# Altium footprint library PCBLibrary.PcbLib: 38 footprints (part 3 of 3)
Each footprint in its own frame and in the unit in brackets; x right, y up, seen from the top. Pads: shape width x height; smd on the part's side, far side on the other; paste and mask are expansions set on the pad; w line width, h text height; cw(c..) or ccw(c..) is an arc to the next point about the centre after c.
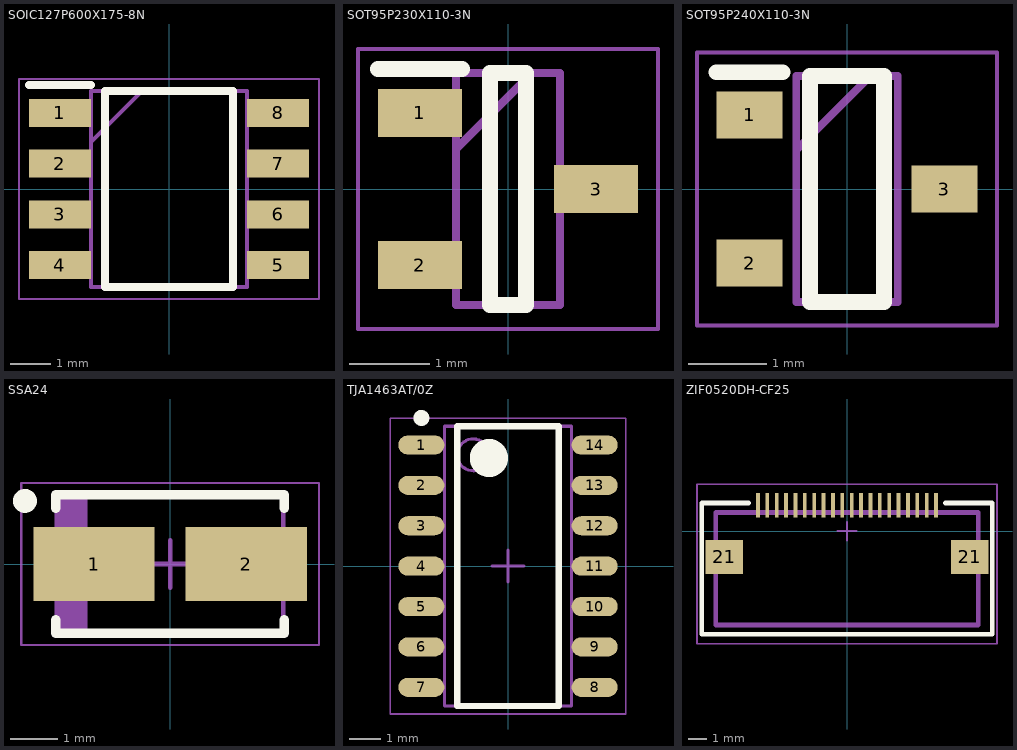
[diagram p2: the footprints below, top view; thin cyan lines are the x and y axes]

## SOIC127P600X175-8N [mm]
pads (8):
  rect 1.55x0.7 smd: 1(-2.725,1.905) 2(-2.725,0.635) 3(-2.725,-0.635) 4(-2.725,-1.905) 5(2.725,-1.905) 6(2.725,-0.635) 7(2.725,0.635) 8(2.725,1.905)
Top Overlay:
  lines w0.2: -3.5,2.605 -1.95,2.605 ; -1.6,-2.45 1.6,-2.45 1.6,2.45 -1.6,2.45 -1.6,-2.45
Mechanical 13:
  lines w0.1: -1.95,1.18 -0.68,2.45 ; -1.95,-2.45 1.95,-2.45 1.95,2.45 -1.95,2.45 -1.95,-2.45
Mechanical 15:
  lines w0.05: -3.75,-2.75 3.75,-2.75 3.75,2.75 -3.75,2.75 -3.75,-2.75
3D body "TJA1441AT_0Z.stp": height 1.75, standoff 0, extent -3,-2.45 3,2.45

## SOT95P230X110-3N [mm]
pads (3):
  rect 1.05x0.6 smd: 1(-1.1,0.95) 2(-1.1,-0.95) 3(1.1,0)
Top Overlay:
  lines w0.2: -1.625,1.5 -0.575,1.5 ; -0.225,-1.45 0.225,-1.45 0.225,1.45 -0.225,1.45 -0.225,-1.45
Mechanical 13:
  lines w0.1: -0.65,0.5 0.3,1.45 ; -0.65,-1.45 0.65,-1.45 0.65,1.45 -0.65,1.45 -0.65,-1.45
Mechanical 15:
  lines w0.05: -1.875,-1.75 1.875,-1.75 1.875,1.75 -1.875,1.75 -1.875,-1.75
3D body "BC847B,235.stp": height 1.1, standoff 0, extent -1.15,-1.45 1.15,1.45

## SOT95P240X110-3N [mm]
pads (3):
  rect 0.85x0.6 smd: 1(-1.25,0.95) 2(-1.25,-0.95) 3(1.25,0)
Top Overlay:
  lines w0.2: -1.675,1.5 -0.825,1.5 ; -0.475,-1.45 -0.475,1.45 0.475,1.45 0.475,-1.45 -0.475,-1.45
Mechanical 13:
  lines w0.1: -0.65,0.5 0.3,1.45 ; -0.65,-1.45 -0.65,1.45 0.65,1.45 0.65,-1.45 -0.65,-1.45
Mechanical 15:
  lines w0.05: -1.925,-1.75 -1.925,1.75 1.925,1.75 1.925,-1.75 -1.925,-1.75
3D body "BAT_54-04_E6327.stp": height 1.1, standoff 0, extent -1.2,-1.45 1.2,1.45

## SSA24 [mm]
height 2.7
pads (2):
  rect 2.55x1.55 smd: 1(-1.6,0) 2(1.6,0)
Top Overlay:
  circle w0.25: c-3.05,1.325 r0.125
  lines w0.2: -2.4,-1.175 -2.4,-1.45 2.4,-1.45 2.4,-1.175 ; -2.4,1.175 -2.4,1.45 2.4,1.45 2.4,1.175
Mechanical 13:
  rectangle: -2.375,-1.45 -1.736,1.45
  lines w0.1: -2.375,-1.45 2.375,-1.45 2.375,1.45 -2.375,1.45 -2.375,-1.45
Mechanical 15:
  lines w0.05: -3.125,-1.7 3.125,-1.7 3.125,1.7 -3.125,1.7 -3.125,-1.7
  lines w0.1: -0.5,0 0.5,0 ; 0,-0.5 0,0.5
3D body "SSA24.step": height 2.7, standoff 0, extent -2.595,-1.45 2.595,1.45

## TJA1463AT/0Z [mm] "SOP, 14-Leads, Body 8,65x3,90mm, Pitch 1,27mm, IPC Medium Density"
height 1.75
pads (14):
  oval 1.45x0.6 smd: 1(-2.725,3.81) 2(-2.725,2.54) 3(-2.725,1.27) 4(-2.725,0) 5(-2.725,-1.27) 6(-2.725,-2.54) 7(-2.725,-3.81) 8(2.725,-3.81) 9(2.725,-2.54) 10(2.725,-1.27) 11(2.725,0) 12(2.725,1.27) 13(2.725,2.54) 14(2.725,3.81)
Top Overlay:
  circle w0.25: c-2.725,4.66 r0.125
  circle w0.6: c-0.6,3.4 r0.3
  lines w0.2: -1.6,-4.4 -1.6,4.4 1.6,4.4 1.6,-4.4 -1.6,-4.4
Mechanical 13:
  circle w0.1: c-1.1,3.5 r0.5
  lines w0.1: -2,-4.4 -2,4.4 2,4.4 2,-4.4 -2,-4.4
Mechanical 15:
  lines w0.05: -3.7,-4.65 -3.7,4.65 3.7,4.65 3.7,-4.65 -3.7,-4.65
  lines w0.1: -0.5,0 0.5,0 ; 0,-0.5 0,0.5
3D body: height 1.75, standoff 0.25, extent -2,-4.4 2,4.4

## ZIF0520DH-CF25 [mm]
pads (22):
  rect 0.2x1.3 smd paste-2539.97 mask+0.102: 1(4.75,1.375) 2(4.25,1.375) 3(3.75,1.375) 4(3.25,1.375) 5(2.75,1.375) 6(2.25,1.375) 7(1.75,1.375) 8(1.25,1.375) 9(0.75,1.375) 10(0.25,1.375) 11(-0.25,1.375) 12(-0.75,1.375) 13(-1.25,1.375) 14(-1.75,1.375) 15(-2.25,1.375) 16(-2.75,1.375) 17(-3.25,1.375) 18(-3.75,1.375) 19(-4.25,1.375) 20(-4.75,1.375)
  rect 2x1.8 smd paste-2539.97 mask+0.102: 21(-6.55,-1.375) 21(6.55,-1.375)
Top Overlay:
  lines w0.254: -5.25,1.5 -7.75,1.5 -7.75,-5.5 7.75,-5.5 7.75,1.5 5.25,1.5
Mechanical 13:
  lines w0.254: -7,-5 7,-5 7,1 -7,1 -7,-5
Mechanical 15:
  lines w0.1: -0.5,0 0.5,0 ; 0,-0.5 0,0.5 ; -8,-6 8,-6 8,2.5 -8,2.5 -8,-6
3D body: height 2.2, standoff 0, extent -7,-5.125 7,0.875